# Altium schematic symbol library SMD.SchLib: 9 symbols
Pins are listed as number, name and electrical type; pins without a type are passive.

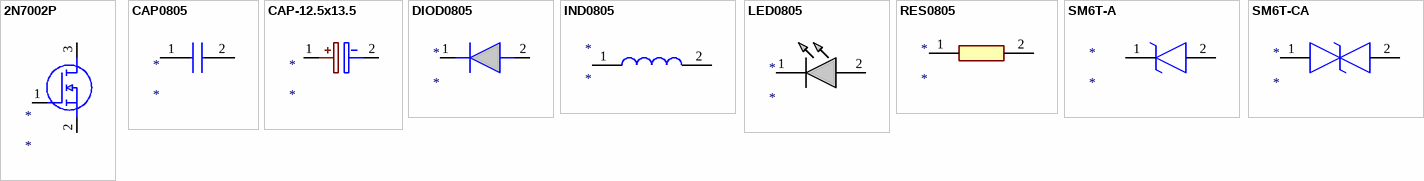
[diagram p0: symbols 2N7002P to SM6T-CA]

## 2N7002P
designator *
2N7002P,215
footprint 2N7002P
pins: 1 G, 2 S, 3 D

## CAP0805
designator *
CAP-SMD0805
footprint CAP0805
pins: 1, 2

## CAP-12.5x13.5
designator *
YUQINGXIN
footprint CAP-12.5x13.5
pins: 1 +, 2 -

## DIOD0805
designator *
1N4448WS-7-F
footprint DIOD0805
pins: 1 K, 2 A

## IND0805
designator *
LQM21FN
footprint IND0805
pins: 1, 2

## LED0805
designator *
LED-SMD0805
footprint LED0805
pins: 1 K, 2 A

## RES0805
designator *
RES-SMD0805
footprint RES0805
pins: 1, 2

## SM6T-A
designator *
SM6T12A-SMD
footprint SM6T-A
pins: 1, 2

## SM6T-CA
designator *
SM6T12CA-SMD
footprint SM6T-CA
pins: 1, 2